# EAGLE library part HE10_H_14 (library microLib)
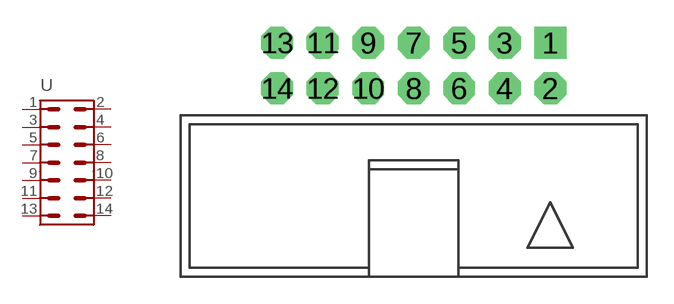
[diagram p27: symbol with the pads of CON_2X_2.54_H_14; footprint CON_2X_2.54_H_14]

Designator prefix -

## HE10_H_14  [CON_2X_2.54_H_14]
1  1
2  2
3  3
4  4
5  5
6  6
7  7
8  8
9  9
10  10
11  11
12  12
13  13
14  14

## Footprint CON_2X_2.54_H_14 (pad centres in mm)
drill 1 pad 1.778 square: 1 7.62,2.54
drill 1 pad 1.778 octagon: 2 7.62,0; 3 5.08,2.54; 4 5.08,0; 5 2.54,2.54; 6 2.54,0; 7 0,2.54; 8 0,0; 9 -2.54,2.54; 10 -2.54,0; 11 -5.08,2.54; 12 -5.08,0; 13 -7.62,2.54; 14 -7.62,0